# Altium schematic symbol library L1206.Schlib: 1 symbol
Pins are listed as number, name and electrical type; pins without a type are passive.

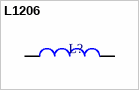
[diagram p0: symbol L1206]

## L1206
designator L?  (value not drawn)
1206 Chip Inductor - Standard
pins: 1, 2